# Altium footprint library 7621_cmp.PcbLib: 33 footprints (part 3 of 3)
Each footprint in its own frame and in the unit in brackets; x right, y up, seen from the top. Pads: shape width x height; smd on the part's side, far side on the other; paste and mask are expansions set on the pad; w line width, h text height; cw(c..) or ccw(c..) is an arc to the next point about the centre after c.
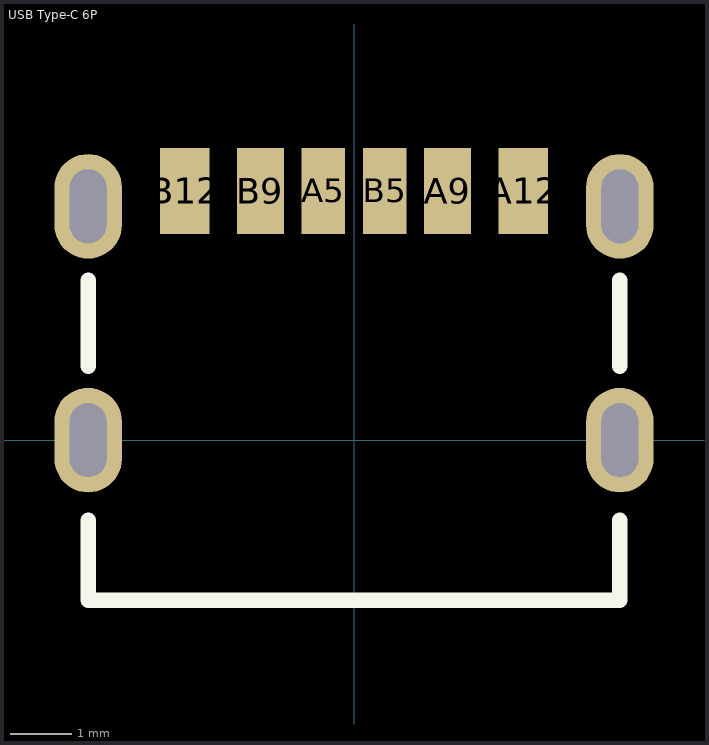
[diagram p2: the footprint, top view; thin cyan lines are the x and y axes]

## USB Type-C 6P [mm]
pads (10):
  rect 0.7x1.4 smd paste+0 mask+0: A5(-0.5,4.05) B5(0.5,4.05)
  rect 0.76x1.4 smd paste+0 mask+0: A9(1.52,4.05) B9(-1.52,4.05)
  rect 0.8x1.4 smd paste+0 mask+0: A12(2.75,4.05) B12(-2.75,4.05)
  oval 1.1x1.7 hole 1.2 slot 0.6 at 0 deg unplated: ""(-4.32,0) ""(-4.32,3.8) ""(4.32,0) ""(4.32,3.8)
Top Overlay:
  lines w0.254: -4.32,-1.3 -4.32,-2.6 4.32,-2.6 4.32,-1.3 ; -4.32,1.2 -4.32,2.6 ; 4.32,1.2 4.32,2.6